# EAGLE library part MCP2562 (library Goodies)
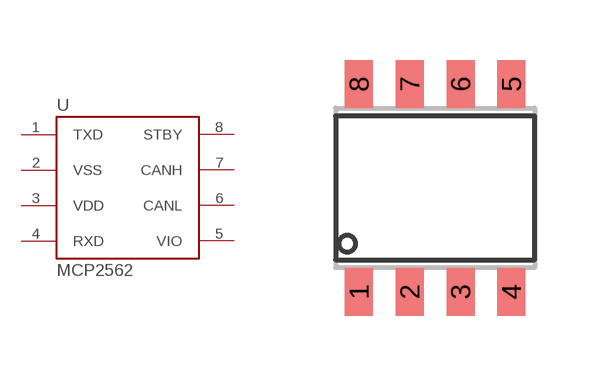
[diagram p10: symbol with the pads of SOIC-8; footprint SOIC-8]

Designator prefix U

## MCP2562  [SOIC-8]
1  TXD
2  VSS
3  VDD
4  RXD
5  VIO
6  CANL
7  CANH
8  STBY

## Footprint SOIC-8 (pad centres in mm)
Description: SOIC-8 Based on TH8056 Single Wire CAN Transceiver datasheet TESTED
smd 0.7 x 1.2: 1 -1.905,-2.6; 2 -0.635,-2.6; 3 0.635,-2.6; 4 1.905,-2.6; 5 1.905,2.6; 6 0.635,2.6; 7 -0.635,2.6; 8 -1.905,2.6